# Altium footprint library m68k.PcbLib: 35 footprints (part 2 of 3)
Each footprint in its own frame and in the unit in brackets; x right, y up, seen from the top. Pads: shape width x height; smd on the part's side, far side on the other; paste and mask are expansions set on the pad; w line width, h text height; cw(c..) or ccw(c..) is an arc to the next point about the centre after c.
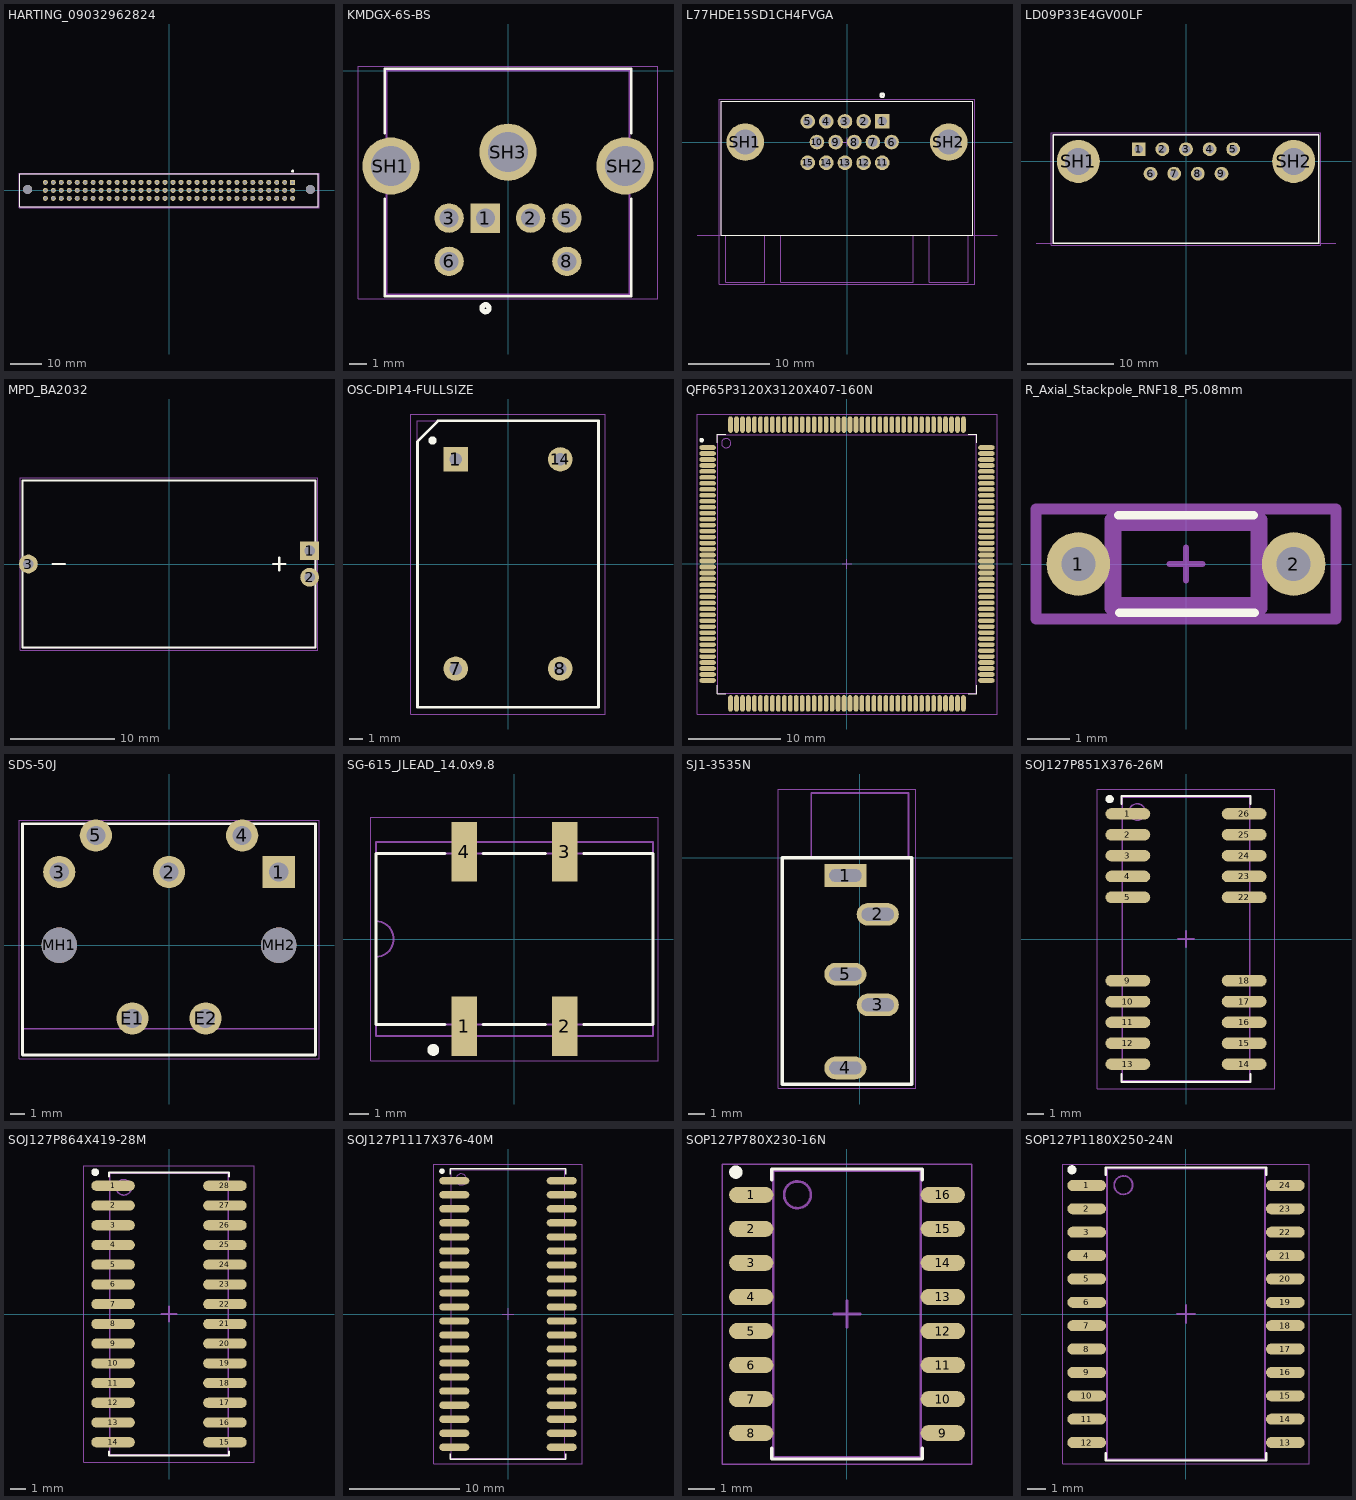
[diagram p1: the footprints below, top view; thin cyan lines are the x and y axes]

## HARTING_09032962824 [mm] "HARTING 09 03 296 2824, DIN 41612 type C female, 96-pole, straight solder contacts, perf. level 1. Drawing 0903296X824 rev C. Top view; origin = centre of contact field on row b. Pads A/B/C = rows a/b/c, 1-32 = position; position 1 at +X, row a at +Y."
height 11.6
pads (98):
  rect 1.6x1.6 hole 1 mask+0.075: A1(39.37,2.54)
  round 1.6 hole 1 mask+0.075: A2(36.83,2.54) A3(34.29,2.54) A4(31.75,2.54) A5(29.21,2.54) A6(26.67,2.54) A7(24.13,2.54) A8(21.59,2.54) A9(19.05,2.54) A10(16.51,2.54) A11(13.97,2.54) A12(11.43,2.54) A13(8.89,2.54) A14(6.35,2.54) A15(3.81,2.54) A16(1.27,2.54) A17(-1.27,2.54) A18(-3.81,2.54) A19(-6.35,2.54) A20(-8.89,2.54) A21(-11.43,2.54) A22(-13.97,2.54) A23(-16.51,2.54) A24(-19.05,2.54) A25(-21.59,2.54) A26(-24.13,2.54) A27(-26.67,2.54) A28(-29.21,2.54) A29(-31.75,2.54) A30(-34.29,2.54) A31(-36.83,2.54) A32(-39.37,2.54) B1(39.37,0) B2(36.83,0) B3(34.29,0) B4(31.75,0) B5(29.21,0) B6(26.67,0) B7(24.13,0) B8(21.59,0) B9(19.05,0) B10(16.51,0) B11(13.97,0) B12(11.43,0) B13(8.89,0) B14(6.35,0) B15(3.81,0) B16(1.27,0) B17(-1.27,0) B18(-3.81,0) B19(-6.35,0) B20(-8.89,0) B21(-11.43,0) B22(-13.97,0) B23(-16.51,0) B24(-19.05,0) B25(-21.59,0) B26(-24.13,0) B27(-26.67,0) B28(-29.21,0) B29(-31.75,0) B30(-34.29,0) B31(-36.83,0) B32(-39.37,0) C1(39.37,-2.54) C2(36.83,-2.54) C3(34.29,-2.54) C4(31.75,-2.54) C5(29.21,-2.54) C6(26.67,-2.54) C7(24.13,-2.54) C8(21.59,-2.54) C9(19.05,-2.54) C10(16.51,-2.54) C11(13.97,-2.54) C12(11.43,-2.54) C13(8.89,-2.54) C14(6.35,-2.54) C15(3.81,-2.54) C16(1.27,-2.54) C17(-1.27,-2.54) C18(-3.81,-2.54) C19(-6.35,-2.54) C20(-8.89,-2.54) C21(-11.43,-2.54) C22(-13.97,-2.54) C23(-16.51,-2.54) C24(-19.05,-2.54) C25(-21.59,-2.54) C26(-24.13,-2.54) C27(-26.67,-2.54) C28(-29.21,-2.54) C29(-31.75,-2.54) C30(-34.29,-2.54) C31(-36.83,-2.54) C32(-39.37,-2.54)
  round 2.86 hole 2.85 unplated mask+0.075: MH1(45,0.3) MH2(-45,0.3)
Top Overlay:
  circle w0.5: c39.37,6.1 r0.25
  lines w0.2: -47.5,-5.25 47.5,-5.25 47.5,5.25 -47.5,5.25 -47.5,-5.25
  text ".Designator" at -3.96,6.2 h1.2
Top Component Outline:
  lines w0.1: -47.5,-5.25 47.5,-5.25 47.5,5.25 -47.5,5.25 -47.5,-5.25
Top Assembly:
  lines w0.1: -47.5,-5.25 47.5,-5.25 47.5,5.25 -47.5,5.25 -47.5,-5.25
Top Designator:
  text ".Designator" at -3.96,-0.6 h1.2
Top Courtyard:
  lines w0.05: -47.75,-5.5 47.75,-5.5 47.75,5.5 -47.75,5.5 -47.75,-5.5
3D body: height 11.6, standoff 0, extent -47.5,-5.25 47.5,5.25

## KMDGX-6S-BS [mm] "Kycon KMDGX-6S-BS right-angle Mini-DIN 6 receptacle, fully shielded, THT"
height 13
pads (9):
  rect 1.7x1.7 hole 1.1 mask+0.075: 1(-1.3,-8.5)
  round 1.7 hole 1.1 mask+0.075: 2(1.3,-8.5) 3(-3.4,-8.5) 5(3.4,-8.5) 6(-3.4,-11) 8(3.4,-11)
  round 3.3 hole 2.3 mask+0.075: SH1(-6.75,-5.5) SH2(6.75,-5.5) SH3(0,-4.7)
Top Overlay:
  circle w0.3: c-1.3,-13.7 r0.2
  lines w0.15: -7.1,-7.4 -7.1,-13 7.1,-13 7.1,-7.4 ; -7.1,-3.6 -7.1,0.1 7.1,0.1 7.1,-3.6
  text ".Designator" at -3.3,-15.3 h1
Top Component Outline:
  lines w0.1: -7,-12.9 7,-12.9 7,0 -7,0 -7,-12.9
Top Designator:
  text ".Designator" at -3.3,-6.95 h1
Top Courtyard:
  lines w0.05: -8.65,-13.15 8.65,-13.15 8.65,0.25 -8.65,0.25 -8.65,-13.15
3D body: height 13, standoff 0, extent -7,-12.9 7,0

## L77HDE15SD1CH4FVGA [mm] "Amphenol L77HDE15SD1CH4FVGA, HD D-Sub 15 (DE-15/VGA) socket, right angle, D1 8.89 mm, CH boardlock, 4-40 front screwlock. Top view; origin = shell centerline on middle pin row; board edge at -Y."
height 12.55
pads (17):
  rect 1.8x1.8 hole 1.19 mask+0.075: 1(4.33,2.54)
  round 1.8 hole 1.19 mask+0.075: 2(2.04,2.54) 3(-0.25,2.54) 4(-2.54,2.54) 5(-4.83,2.54) 6(5.47,0) 7(3.18,0) 8(0.89,0) 9(-1.4,0) 10(-3.69,0) 11(4.33,-2.54) 12(2.04,-2.54) 13(-0.25,-2.54) 14(-2.54,-2.54) 15(-4.83,-2.54)
  round 4.6 hole 3.05 mask+0.075: SH1(-12.495,0) SH2(12.495,0)
Top Overlay:
  circle w0.3: c4.33,5.75 r0.2
  lines w0.15: -15.42,-11.43 -15.42,4.99 15.42,4.99 15.42,-11.43 -15.42,-11.43
  text ".Designator" at -3.3,5.99 h1
Mechanical 1:
  lines w0.1: -18.42,-11.43 18.42,-11.43
  text "FLANGE FACE (Y=-11.43)" at -18.42,-11.13 h0.8
Top Component Outline:
  lines w0.1: -15.42,-11.43 -15.42,4.99 15.42,4.99 15.42,-11.43 -15.42,-11.43 ; -14.895,-17.23 -14.895,-11.43 -10.095,-11.43 -10.095,-17.23 -14.895,-17.23 ; -8.13,-17.23 -8.13,-11.43 8.13,-11.43 8.13,-17.23 -8.13,-17.23 ; 10.095,-17.23 10.095,-11.43 14.895,-11.43 14.895,-17.23 10.095,-17.23
Top Assembly:
  lines w0.1: -15.42,-11.43 -15.42,4.99 15.42,4.99 15.42,-11.43 -15.42,-11.43 ; -14.895,-17.23 -14.895,-11.43 -10.095,-11.43 -10.095,-17.23 -14.895,-17.23 ; -8.13,-17.23 -8.13,-11.43 8.13,-11.43 8.13,-17.23 -8.13,-17.23 ; 10.095,-17.23 10.095,-11.43 14.895,-11.43 14.895,-17.23 10.095,-17.23
  text ".Designator" at -3.3,-7 h1
Top Courtyard:
  lines w0.05: -15.67,-17.48 -15.67,5.24 15.67,5.24 15.67,-17.48 -15.67,-17.48
Top Component Center:
  lines w0.05: -0.5,0 0.5,0 ; 0,-0.5 0,0.5
3D body: height 10.2, standoff 2.3, extent -8.13,-17.23 8.13,-11.43
3D body: height 12.55, standoff 0, extent -15.42,-11.43 15.42,4.99

## LD09P33E4GV00LF [mm] "Amphenol FCI LD09P33E4GV00LF DE-9 male right angle THT. Top view; origin = midpoint of harpoon holes; board edge at y=-9.50 (mating face toward -Y). Pin 1 rear row, -X."
height 12.58
pads (11):
  rect 1.6x1.6 hole 1 mask+0.075: 1(-5.48,1.42)
  round 1.6 hole 1 mask+0.075: 2(-2.74,1.42) 3(0,1.42) 4(2.74,1.42) 5(5.48,1.42) 6(-4.11,-1.42) 7(-1.37,-1.42) 8(1.37,-1.42) 9(4.11,-1.42)
  round 5 hole 3.1 mask+0.075: SH1(-12.495,0) SH2(12.495,0)
Top Overlay:
  lines w0.2: -15.405,-9.5 -15.405,3.1 15.405,3.1 15.405,-9.5 -15.405,-9.5
  text ".Designator" at -3.96,3.7 h1.2
Mechanical 1:
  lines w0.1: -17.405,-9.5 17.405,-9.5
  text "PCB EDGE" at -1.92,-10.6 h0.8
Top Component Outline:
  lines w0.1: -15.405,-9.5 -15.405,3.1 15.405,3.1 15.405,-9.5 -15.405,-9.5
Top Assembly:
  lines w0.1: -15.405,-9.5 -15.405,3.1 15.405,3.1 15.405,-9.5 -15.405,-9.5
Top Designator:
  text ".Designator" at -3.96,-5.6 h1.2
Top Courtyard:
  lines w0.05: -15.655,-9.75 -15.655,3.35 15.655,3.35 15.655,-9.75 -15.655,-9.75
3D body: height 12.58, standoff 0, extent -15.405,-9.5 15.405,3.1

## MPD_BA2032 [mm] "MPD BA2032 CR2032 coin cell holder, THT. Top view; origin = body centre; negative at -X, positive (2 tails) at +X."
height 6.7
pads (3):
  rect 1.8x1.8 hole 1 mask+0.075: 1(13.45,1.27)
  round 1.8 hole 1 mask+0.075: 2(13.45,-1.27) 3(-13.45,0)
Top Overlay:
  lines w0.2: -11.15,0 -9.95,0 ; 9.95,0 11.15,0 ; 10.55,-0.6 10.55,0.6 ; -14,-8 -14,8 14,8 14,-8 -14,-8
  text ".Designator" at -3.96,8.5 h1.2
Top Component Outline:
  lines w0.1: -14,-8 -14,8 14,8 14,-8 -14,-8
Top Assembly:
  lines w0.1: -14,-8 -14,8 14,8 14,-8 -14,-8
Top Designator:
  text ".Designator" at -3.96,-0.6 h1.2
Top Courtyard:
  lines w0.05: -14.25,-8.25 -14.25,8.25 14.25,8.25 14.25,-8.25 -14.25,-8.25
3D body: height 6.7, standoff 0, extent -14,-8 14,8

## OSC-DIP14-FULLSIZE [mm] "Clock oscillator, full size 14-DIP metal can, 4 leads on the 0.600\" x 0.300\" DIP-14 grid (pins 1, 7, 8, 14), body 20.86 x 13.20 x 5.08 mm"
height 5.88
pads (4):
  rect 1.78x1.78 hole 0.9: 1(-3.81,7.62)
  round 1.78 hole 0.9: 7(-3.81,-7.62) 8(3.81,-7.62) 14(3.81,7.62)
Top Overlay:
  circle w0.3: c-5.5,9 r0.15
  lines w0.2: -6.6,-10.43 6.6,-10.43 6.6,10.43 -5.1,10.43 -6.6,8.93 -6.6,-10.43
Top Component Outline:
  lines w0.05: -6.6,-10.43 6.6,-10.43 6.6,10.43 -6.6,10.43 -6.6,-10.43
Top Assembly:
  lines w0.1: -6.6,-10.43 6.6,-10.43 6.6,10.43 -5.1,10.43 -6.6,8.93 -6.6,-10.43
Top Designator:
  text ".Designator" at -1.7,-0.6 h1.2
Top Courtyard:
  lines w0.05: -7.1,-10.93 7.1,-10.93 7.1,10.93 -7.1,10.93 -7.1,-10.93
3D body: height 5.88, standoff 0.8, extent -6.6,-10.43 6.6,10.43

## QFP65P3120X3120X407-160N [mm] "QFP, 160-Leads, Body 28.00x28.00mm, Pitch 0.65mm, IPC Medium Density"
height 4.07
pads (160):
  oval 1.8x0.5 smd: 1(-15.175,12.675) 2(-15.175,12.025) 3(-15.175,11.375) 4(-15.175,10.725) 5(-15.175,10.075) 6(-15.175,9.425) 7(-15.175,8.775) 8(-15.175,8.125) 9(-15.175,7.475) 10(-15.175,6.825) 11(-15.175,6.175) 12(-15.175,5.525) 13(-15.175,4.875) 14(-15.175,4.225) 15(-15.175,3.575) 16(-15.175,2.925) 17(-15.175,2.275) 18(-15.175,1.625) 19(-15.175,0.975) 20(-15.175,0.325) 21(-15.175,-0.325) 22(-15.175,-0.975) 23(-15.175,-1.625) 24(-15.175,-2.275) 25(-15.175,-2.925) 26(-15.175,-3.575) 27(-15.175,-4.225) 28(-15.175,-4.875) 29(-15.175,-5.525) 30(-15.175,-6.175) 31(-15.175,-6.825) 32(-15.175,-7.475) 33(-15.175,-8.125) 34(-15.175,-8.775) 35(-15.175,-9.425) 36(-15.175,-10.075) 37(-15.175,-10.725) 38(-15.175,-11.375) 39(-15.175,-12.025) 40(-15.175,-12.675) 81(15.175,-12.675) 82(15.175,-12.025) 83(15.175,-11.375) 84(15.175,-10.725) 85(15.175,-10.075) 86(15.175,-9.425) 87(15.175,-8.775) 88(15.175,-8.125) 89(15.175,-7.475) 90(15.175,-6.825) 91(15.175,-6.175) 92(15.175,-5.525) 93(15.175,-4.875) 94(15.175,-4.225) 95(15.175,-3.575) 96(15.175,-2.925) 97(15.175,-2.275) 98(15.175,-1.625) 99(15.175,-0.975) 100(15.175,-0.325) 101(15.175,0.325) 102(15.175,0.975) 103(15.175,1.625) 104(15.175,2.275) 105(15.175,2.925) 106(15.175,3.575) 107(15.175,4.225) 108(15.175,4.875) 109(15.175,5.525) 110(15.175,6.175) 111(15.175,6.825) 112(15.175,7.475) 113(15.175,8.125) 114(15.175,8.775) 115(15.175,9.425) 116(15.175,10.075) 117(15.175,10.725) 118(15.175,11.375) 119(15.175,12.025) 120(15.175,12.675)
  oval 0.5x1.8 smd: 41(-12.675,-15.175) 42(-12.025,-15.175) 43(-11.375,-15.175) 44(-10.725,-15.175) 45(-10.075,-15.175) 46(-9.425,-15.175) 47(-8.775,-15.175) 48(-8.125,-15.175) 49(-7.475,-15.175) 50(-6.825,-15.175) 51(-6.175,-15.175) 52(-5.525,-15.175) 53(-4.875,-15.175) 54(-4.225,-15.175) 55(-3.575,-15.175) 56(-2.925,-15.175) 57(-2.275,-15.175) 58(-1.625,-15.175) 59(-0.975,-15.175) 60(-0.325,-15.175) 61(0.325,-15.175) 62(0.975,-15.175) 63(1.625,-15.175) 64(2.275,-15.175) 65(2.925,-15.175) 66(3.575,-15.175) 67(4.225,-15.175) 68(4.875,-15.175) 69(5.525,-15.175) 70(6.175,-15.175) 71(6.825,-15.175) 72(7.475,-15.175) 73(8.125,-15.175) 74(8.775,-15.175) 75(9.425,-15.175) 76(10.075,-15.175) 77(10.725,-15.175) 78(11.375,-15.175) 79(12.025,-15.175) 80(12.675,-15.175) 121(12.675,15.175) 122(12.025,15.175) 123(11.375,15.175) 124(10.725,15.175) 125(10.075,15.175) 126(9.425,15.175) 127(8.775,15.175) 128(8.125,15.175) 129(7.475,15.175) 130(6.825,15.175) 131(6.175,15.175) 132(5.525,15.175) 133(4.875,15.175) 134(4.225,15.175) 135(3.575,15.175) 136(2.925,15.175) 137(2.275,15.175) 138(1.625,15.175) 139(0.975,15.175) 140(0.325,15.175) 141(-0.325,15.175) 142(-0.975,15.175) 143(-1.625,15.175) 144(-2.275,15.175) 145(-2.925,15.175) 146(-3.575,15.175) 147(-4.225,15.175) 148(-4.875,15.175) 149(-5.525,15.175) 150(-6.175,15.175) 151(-6.825,15.175) 152(-7.475,15.175) 153(-8.125,15.175) 154(-8.775,15.175) 155(-9.425,15.175) 156(-10.075,15.175) 157(-10.725,15.175) 158(-11.375,15.175) 159(-12.025,15.175) 160(-12.675,15.175)
Top Overlay:
  circle w0.25: c-15.825,13.475 r0.125
  lines w0.127: -14.113,-13.189 -14.113,-14.114 -13.188,-14.114 ; -14.113,13.188 -14.113,14.113 -13.188,14.113 ; 13.189,-14.114 14.114,-14.114 14.114,-13.189 ; 13.189,14.113 14.114,14.113 14.114,13.188
Top Assembly:
  circle w0.1: c-13.15,13.15 r0.5
  lines w0.1: -14.05,-14.05 14.05,-14.05 14.05,14.05 -14.05,14.05 -14.05,-14.05
Top Designator:
  text ".Designator" at 0,0.188 h1
Top Courtyard:
  lines w0.05: -16.325,-16.325 16.325,-16.325 16.325,16.325 -16.325,16.325 -16.325,-16.325
Top Component Center:
  lines w0.1: -0.5,0 0.5,0 ; 0,-0.5 0,0.5
3D body "QFP65P3120X3120X407-160N.step": height 4.07, standoff 0, extent -15.6,-15.6 15.6,15.6

## R_Axial_Stackpole_RNF18_P5.08mm [mm]
pads (2):
  round 1.5 hole 0.8: 1(-2.54,0) 2(2.54,0)
Top Overlay:
  lines w0.2: -1.6,1.15 1.6,1.15 ; -1.578,-1.15 1.622,-1.15
Top Component Outline:
  lines w0.254: -1.8,-1.05 1.8,-1.05 1.8,1.05 -1.8,1.05 -1.8,-1.05
Top Assembly:
  lines w0.254: -1.65,-0.9 1.65,-0.9 1.65,0.9 -1.65,0.9 -1.65,-0.9
Top Designator:
  text ".Designator" at 0.254,0.762 h1.52
Top Courtyard:
  lines w0.254: -3.54,-1.3 3.54,-1.3 3.54,1.3 -3.54,1.3 -3.54,-1.3
Top Component Center:
  lines w0.15: -0.381,0 0.381,0 ; 0,-0.381 0,0.381

## SDS-50J [mm] "Same Sky SDS-50J 5-pin 180 deg DIN socket, right angle THT. Top view; origin = midpoint of mounting holes; mating face toward -Y (board edge side), front face at y=-7.5."
height 21.1
pads (9):
  rect 2.2x2.2 hole 1.3 mask+0.075: 1(7.5,5)
  round 2.2 hole 1.3 mask+0.075: 2(0,5) 3(-7.5,5) 4(5,7.5) 5(-5,7.5) E1(-2.5,-5) E2(2.5,-5)
  round 2.41 hole 2.4 unplated mask+0.075: MH1(-7.5,0) MH2(7.5,0)
Top Overlay:
  lines w0.2: -10,-7.5 -10,8.3 10,8.3 10,-7.5 -10,-7.5
  text ".Designator" at -3.96,9 h1.2
Top Component Outline:
  lines w0.1: -10,-7.5 -10,8.3 10,8.3 10,-7.5 -10,-7.5
Top Assembly:
  lines w0.1: -10,-5.7 10,-5.7 ; -10,-7.5 -10,8.3 10,8.3 10,-7.5 -10,-7.5
Top Designator:
  text ".Designator" at -3.96,-0.6 h1.2
Top Courtyard:
  lines w0.05: -10.25,-7.75 -10.25,8.55 10.25,8.55 10.25,-7.75 -10.25,-7.75
3D body: height 21.1, standoff 0, extent -10,-7.5 10,8.3

## SG-615_JLEAD_14.0x9.8 [mm] "Epson Toyocom SG-615 series 4-pin J-lead SMD oscillator (SG-615PH). Manufacturer recommended land: 4 x 1.3 x 3.0 mm pads, 5.08 mm pitch (X), 8.8 mm row spacing (Y, pad centres). Body 14.0 x 8.65 mm, 9.8 mm max over leads, 4.7 mm max height. Origin at body centre, top view, pin 1 bottom left. M2 component outline, M9 assembly, M11 designator, M13 3D body, M15 courtyard."
height 4.7
pads (4):
  rect 1.3x3 smd mask+0.075: 1(-2.54,-4.4) 2(2.54,-4.4) 3(2.54,4.4) 4(-2.54,4.4)
Top Overlay:
  circle w0.3: c-4.1,-5.6 r0.15
  lines w0.15: -3.5,-4.325 -7,-4.325 -7,4.325 -3.5,4.325 ; -1.58,-4.325 1.58,-4.325 ; -1.58,4.325 1.58,4.325 ; 3.5,-4.325 7,-4.325 7,4.325 3.5,4.325
  text ".Designator" at -3.3,6.6 h1
Top Component Outline:
  lines w0.1: -7,-4.9 7,-4.9 7,4.9 -7,4.9 -7,-4.9
Top Assembly:
  lines w0.1: -7,-0.9 ccw(c-7,0) -7,0.9 ; -7,-4.325 7,-4.325 7,4.325 -7,4.325 -7,-4.325
Top Designator:
  text ".Designator" at -3.96,-0.6 h1.2
Top Courtyard:
  lines w0.05: -7.25,-6.15 7.25,-6.15 7.25,6.15 -7.25,6.15 -7.25,-6.15
3D body: height 4.7, standoff 0.25, extent -7,-4.325 7,4.325

## SJ1-3535N [mm] "Same Sky SJ1-3535N 3.5 mm audio jack, right angle THT. Top view; origin = plug axis at housing front face; opening toward +Y (bushing 4.0 mm, dia 6.0)."
height 12.5
pads (5):
  rect 2.6x1.4 hole 0.8 slot 2 at 0 deg mask+0.075: 1(-0.9,-1.1)
  oval 2.6x1.4 hole 0.8 slot 2 at 0 deg mask+0.075: 2(1.1,-3.5) 3(1.1,-9.1) 4(-0.9,-13) 5(-0.9,-7.2)
Top Overlay:
  lines w0.2: -4.8,-14 -4.8,0 3.2,0 3.2,-14 -4.8,-14
  text ".Designator" at -5.3,-10.3 h1
Top Component Outline:
  lines w0.1: -4.8,-14 -4.8,0 3.2,0 3.2,-14 -4.8,-14 ; -3,0 -3,4 3,4 3,0 -3,0
Top Assembly:
  lines w0.1: -4.8,-14 -4.8,0 3.2,0 3.2,-14 -4.8,-14 ; -3,0 -3,4 3,4 3,0 -3,0
Top Designator:
  text ".Designator" at 0.5,-10.3 h1
Top Courtyard:
  lines w0.05: -5.05,-14.25 -5.05,4.25 3.45,4.25 3.45,-14.25 -5.05,-14.25
3D body: height 12.5, standoff 0, extent -4.8,-14 3.2,0

## SOJ127P851X376-26M [mm] "SOJ, 26-Leads, Body 17.27x8.51mm, Pitch 1.27mm, IPC Low Density"
height 3.76
pads (20):
  oval 2.725x0.7 smd: 1(-3.538,7.62) 2(-3.538,6.35) 3(-3.538,5.08) 4(-3.538,3.81) 5(-3.538,2.54) 9(-3.538,-2.54) 10(-3.538,-3.81) 11(-3.538,-5.08) 12(-3.538,-6.35) 13(-3.538,-7.62) 14(3.537,-7.62) 15(3.537,-6.35) 16(3.537,-5.08) 17(3.537,-3.81) 18(3.537,-2.54) 22(3.537,2.54) 23(3.537,3.81) 24(3.537,5.08) 25(3.537,6.35) 26(3.537,7.62)
Top Overlay:
  circle w0.25: c-4.65,8.52 r0.125
  lines w0.127: -3.939,-8.233 -3.939,-8.698 3.938,-8.698 3.938,-8.233 ; -3.939,8.233 -3.939,8.698 3.938,8.698 3.938,8.233
Top Assembly:
  circle w0.1: c-2.975,7.735 r0.5
  lines w0.1: -3.875,-8.635 3.875,-8.635 3.875,8.635 -3.875,8.635 -3.875,-8.635
Top Designator:
  text ".Designator" at 0,0.188 h1
Top Courtyard:
  lines w0.05: -5.4,-9.135 5.4,-9.135 5.4,9.135 -5.4,9.135 -5.4,-9.135
Top Component Center:
  lines w0.1: -0.5,0 0.5,0 ; 0,-0.5 0,0.5
3D body: height 3.76, standoff 0.1, extent -3.875,-8.635 3.875,8.635

## SOJ127P864X419-28M [mm] "SOJ, 28-Leads, Body 18.11x8.64mm, Pitch 1.27mm, IPC Low Density"
height 4.2
pads (28):
  oval 2.8x0.65 smd: 1(-3.6,8.255) 2(-3.6,6.985) 3(-3.6,5.715) 4(-3.6,4.445) 5(-3.6,3.175) 6(-3.6,1.905) 7(-3.6,0.635) 8(-3.6,-0.635) 9(-3.6,-1.905) 10(-3.6,-3.175) 11(-3.6,-4.445) 12(-3.6,-5.715) 13(-3.6,-6.985) 14(-3.6,-8.255) 15(3.6,-8.255) 16(3.6,-6.985) 17(3.6,-5.715) 18(3.6,-4.445) 19(3.6,-3.175) 20(3.6,-1.905) 21(3.6,-0.635) 22(3.6,0.635) 23(3.6,1.905) 24(3.6,3.175) 25(3.6,4.445) 26(3.6,5.715) 27(3.6,6.985) 28(3.6,8.255)
Top Overlay:
  circle w0.25: c-4.75,9.13 r0.125
  lines w0.127: -3.873,-8.844 -3.873,-9.119 3.873,-9.119 3.873,-8.844 ; -3.873,8.844 -3.873,9.119 3.873,9.119 3.873,8.844
Top Assembly:
  circle w0.1: c-2.91,8.155 r0.5
  lines w0.1: -3.81,-9.055 -3.81,9.055 3.81,9.055 3.81,-9.055 -3.81,-9.055
Top Designator:
  text ".Designator" at 0,0.188 h1
Top Courtyard:
  lines w0.05: -5.5,-9.555 -5.5,9.555 5.5,9.555 5.5,-9.555 -5.5,-9.555
Top Component Center:
  lines w0.1: -0.5,0 0.5,0 ; 0,-0.5 0,0.5
3D body "SOJ127P864X419-28M.step": height 4.19, standoff 0.01, extent -4.518,-9.055 4.518,9.055

## SOJ127P1117X376-40M [mm] "SOJ, 40-Leads, Body 26.16x11.17mm, Pitch 1.27mm, IPC Low Density"
height 3.76
pads (40):
  oval 2.725x0.65 smd: 1(-4.862,12.065) 2(-4.862,10.795) 3(-4.862,9.525) 4(-4.862,8.255) 5(-4.862,6.985) 6(-4.862,5.715) 7(-4.862,4.445) 8(-4.862,3.175) 9(-4.862,1.905) 10(-4.862,0.635) 11(-4.862,-0.635) 12(-4.862,-1.905) 13(-4.862,-3.175) 14(-4.862,-4.445) 15(-4.862,-5.715) 16(-4.862,-6.985) 17(-4.862,-8.255) 18(-4.862,-9.525) 19(-4.862,-10.795) 20(-4.862,-12.065) 21(4.862,-12.065) 22(4.862,-10.795) 23(4.862,-9.525) 24(4.862,-8.255) 25(4.862,-6.985) 26(4.862,-5.715) 27(4.862,-4.445) 28(4.862,-3.175) 29(4.862,-1.905) 30(4.862,-0.635) 31(4.862,0.635) 32(4.862,1.905) 33(4.862,3.175) 34(4.862,4.445) 35(4.862,5.715) 36(4.862,6.985) 37(4.862,8.255) 38(4.862,9.525) 39(4.862,10.795) 40(4.862,12.065)
Top Overlay:
  circle w0.25: c-5.975,12.94 r0.125
  lines w0.127: -5.208,-12.654 -5.208,-13.143 5.209,-13.143 5.209,-12.654 ; -5.208,12.654 -5.208,13.143 5.209,13.143 5.209,12.654
Top Assembly:
  circle w0.1: c-4.245,12.18 r0.5
  lines w0.1: -5.145,-13.08 5.145,-13.08 5.145,13.08 -5.145,13.08 -5.145,-13.08
Top Designator:
  text ".Designator" at 0,0.188 h1
Top Courtyard:
  lines w0.05: -6.725,-13.58 6.725,-13.58 6.725,13.58 -6.725,13.58 -6.725,-13.58
Top Component Center:
  lines w0.1: -0.5,0 0.5,0 ; 0,-0.5 0,0.5
3D body "SOJ127P1117X376-40M.step": height 3.76, standoff 0.01, extent -5.785,-13.08 5.785,13.08

## SOP127P780X230-16N [mm] "SOP, 16-Leads, Body 10.20x5.30mm, Pitch 1.27mm, IPC Medium Density"
height 2.3
pads (16):
  oval 1.65x0.6 smd: 1(-3.575,4.445) 2(-3.575,3.175) 3(-3.575,1.905) 4(-3.575,0.635) 5(-3.575,-0.635) 6(-3.575,-1.905) 7(-3.575,-3.175) 8(-3.575,-4.445) 9(3.575,-4.445) 10(3.575,-3.175) 11(3.575,-1.905) 12(3.575,-0.635) 13(3.575,0.635) 14(3.575,1.905) 15(3.575,3.175) 16(3.575,4.445)
Top Overlay:
  circle w0.25: c-4.15,5.295 r0.125
  lines w0.127: -2.813,-5.008 -2.813,-5.413 2.813,-5.413 2.813,-5.008 ; -2.813,5.008 -2.813,5.413 2.813,5.413 2.813,5.008
Top Assembly:
  circle w0.1: c-1.85,4.45 r0.5
  lines w0.1: -2.75,-5.35 2.75,-5.35 2.75,5.35 -2.75,5.35 -2.75,-5.35
Top Designator:
  text ".Designator" at 0,0.188 h1
Top Courtyard:
  lines w0.05: -4.65,-5.6 4.65,-5.6 4.65,5.6 -4.65,5.6 -4.65,-5.6
Top Component Center:
  lines w0.1: -0.5,0 0.5,0 ; 0,-0.5 0,0.5
3D body "SOP127P780X230-16N.step": height 2.3, standoff 0, extent -3.9,-5.1 3.9,5.1

## SOP127P1180X250-24N [mm] "SOP, 24-Leads, Body 15.50x8.40mm, Pitch 1.27mm, IPC Medium Density"
height 2.5
pads (24):
  oval 2.1x0.6 smd: 1(-5.4,6.985) 2(-5.4,5.715) 3(-5.4,4.445) 4(-5.4,3.175) 5(-5.4,1.905) 6(-5.4,0.635) 7(-5.4,-0.635) 8(-5.4,-1.905) 9(-5.4,-3.175) 10(-5.4,-4.445) 11(-5.4,-5.715) 12(-5.4,-6.985) 13(5.4,-6.985) 14(5.4,-5.715) 15(5.4,-4.445) 16(5.4,-3.175) 17(5.4,-1.905) 18(5.4,-0.635) 19(5.4,0.635) 20(5.4,1.905) 21(5.4,3.175) 22(5.4,4.445) 23(5.4,5.715) 24(5.4,6.985)
Top Overlay:
  circle w0.25: c-6.2,7.835 r0.125
  lines w0.127: -4.363,-7.548 -4.363,-7.963 4.364,-7.963 4.364,-7.548 ; -4.363,7.548 -4.363,7.963 4.364,7.963 4.364,7.548
Top Assembly:
  circle w0.1: c-3.4,7 r0.5
  lines w0.1: -4.3,-7.9 -4.3,7.9 4.3,7.9 4.3,-7.9 -4.3,-7.9
Top Designator:
  text ".Designator" at 0,0.188 h1
Top Courtyard:
  lines w0.05: -6.7,-8.15 -6.7,8.15 6.7,8.15 6.7,-8.15 -6.7,-8.15
Top Component Center:
  lines w0.1: -0.5,0 0.5,0 ; 0,-0.5 0,0.5
3D body "SOP127P1180X250-24N.step": height 2.5, standoff 0, extent -5.9,-7.75 5.9,7.75